# Altium schematic symbol library 4xxx.SchLib: 48 symbols
Pins are listed as number, name and electrical type; pins without a type are passive.

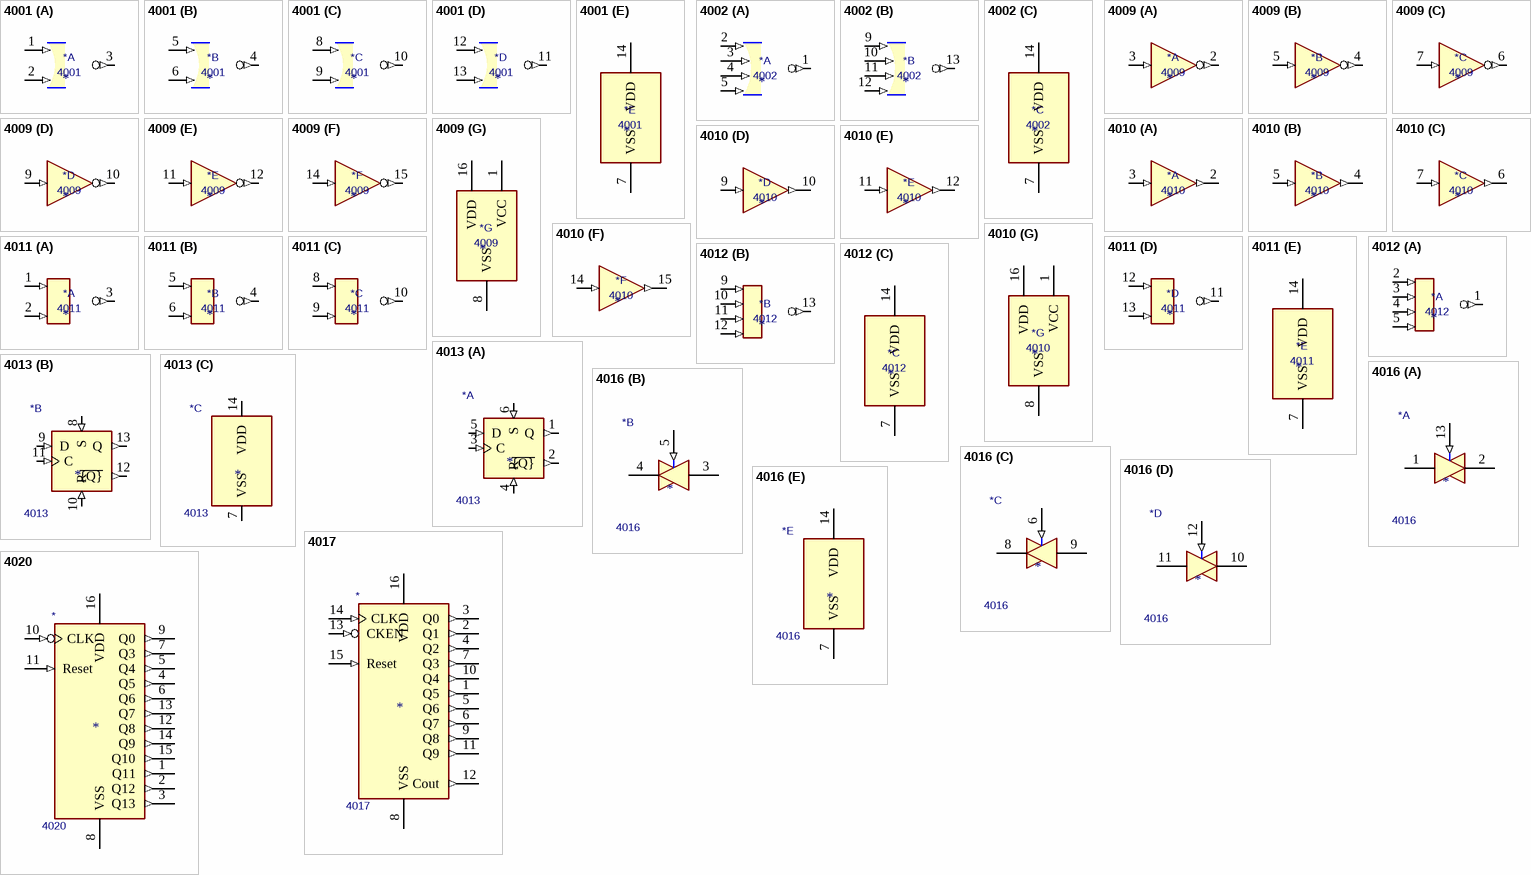
[diagram p0: symbols 4001 to 4020]

## 4001
designator *  value 4001
ki_keywords: CMOS Nor2; ki_description: Quad Nor 2 inputs; ki_fp_filters: DIP?14*; Supplier: http://www.intersil.com/content/dam/Intersil/documents/cd40/cd4000bms-01bms-02bms-25bms.pdf
part A pins: 1 (in), 2 (in), 3 (out)
part B pins: 4 (out), 5 (in), 6 (in)
part C pins: 8 (in), 9 (in), 10 (out)
part D pins: 11 (out), 12 (in), 13 (in)
part E pins: 7 VSS (power), 14 VDD (power)
1 alternate drawing of the same symbol

## 4002
designator *  value 4002
ki_keywords: CMOS Nor4; ki_description: Dual  4 input NOR gate; ki_fp_filters: DIP?14*; Supplier: http://www.intersil.com/content/dam/Intersil/documents/cd40/cd4000bms-01bms-02bms-25bms.pdf
part A pins: 1 (out), 2 (in), 3 (in), 4 (in), 5 (in)
part B pins: 9 (in), 10 (in), 11 (in), 12 (in), 13 (out)
part C pins: 7 VSS (power), 14 VDD (power)
1 alternate drawing of the same symbol

## 4009
designator *  value 4009
ki_keywords: CMOS INV BUFFER high sink, VCC and VDD sep. VDD>VI>VCC!; ki_description: Hex Buffer Inverter; ki_fp_filters: DIP?16*; Supplier: http://www.sycelectronica.com.ar/semiconductores/CD4009.pdf
part A pins: 2 (out), 3 (in)
part B pins: 4 (out), 5 (in)
part C pins: 6 (out), 7 (in)
part D pins: 9 (in), 10 (out)
part E pins: 11 (in), 12 (out)
part F pins: 14 (in), 15 (out)
part G pins: 1 VCC (power), 8 VSS (power), 16 VDD (power)

## 4010
designator *  value 4010
ki_keywords: CMOS BUFFER high sink, VCC and VDD sep. VDD>VI>VCC!; ki_description: Hex Buffer; ki_fp_filters: DIP?16*; Supplier: http://www.ti.com/lit/ds/symlink/cd4010b-q1.pdf
part A pins: 2 (out), 3 (in)
part B pins: 4 (out), 5 (in)
part C pins: 6 (out), 7 (in)
part D pins: 9 (in), 10 (out)
part E pins: 11 (in), 12 (out)
part F pins: 14 (in), 15 (out)
part G pins: 1 VCC (power), 8 VSS (power), 16 VDD (power)

## 4011
designator *  value 4011
ki_keywords: CMOS Nand2; ki_description: Quad Nand 2 inputs; ki_fp_filters: DIP?14*; Supplier: http://www.intersil.com/content/dam/Intersil/documents/cd40/cd4011bms-12bms-23bms.pdf
part A pins: 1 (in), 2 (in), 3 (out)
part B pins: 4 (out), 5 (in), 6 (in)
part C pins: 8 (in), 9 (in), 10 (out)
part D pins: 11 (out), 12 (in), 13 (in)
part E pins: 7 VSS (power), 14 VDD (power)
1 alternate drawing of the same symbol

## 4012
designator *  value 4012
ki_keywords: CMOS Nand4; ki_description: Dual 4 inputs Nand; ki_fp_filters: DIP?14*; Supplier: http://www.intersil.com/content/dam/Intersil/documents/cd40/cd4011bms-12bms-23bms.pdf
part A pins: 1 (out), 2 (in), 3 (in), 4 (in), 5 (in)
part B pins: 9 (in), 10 (in), 11 (in), 12 (in), 13 (out)
part C pins: 7 VSS (power), 14 VDD (power)
1 alternate drawing of the same symbol

## 4013
designator *  value 4013
ki_keywords: CMOS DFF; ki_description: Dual D  FlipFlop, Set & reset; ki_fp_filters: DIP*W7.62mm* SOIC*3.9x9.9mm*P1.27mm* TSSOP*4.4x5mm*P0.65mm*; Supplier: http://www.onsemi.com/pub/Collateral/MC14013B-D.PDF
part A pins: 1 Q (out), 2 ~{{Q}} (out), 3 C (in), 4 R (in), 5 D (in), 6 S (in)
part B pins: 8 S (in), 9 D (in), 10 R (in), 11 C (in), 12 ~{{Q}} (out), 13 Q (out)
part C pins: 7 VSS (power), 14 VDD (power)

## 4016
designator *  value 4016
ki_keywords: CMOS SWITCH; ki_description: Quad Analog Switches; ki_fp_filters: DIP?14*; Supplier: http://www.ti.com/lit/ds/symlink/cd4016b.pdf
part A pins: 1, 2, 13 (in)
part B pins: 3, 4, 5 (in)
part C pins: 6 (in), 8, 9
part D pins: 10, 11, 12 (in)
part E pins: 7 VSS (power), 14 VDD (power)

## 4017
designator *  value 4017
ki_keywords: CNT CNT10; ki_description: Johnson Counter ( 10 outputs ); ki_fp_filters: DIP?16*; Supplier: http://www.intersil.com/content/dam/Intersil/documents/cd40/cd4017bms-22bms.pdf
pins: 1 Q5 (out), 2 Q1 (out), 3 Q0 (out), 4 Q2 (out), 5 Q6 (out), 6 Q7 (out), 7 Q3 (out), 8 VSS (power), 9 Q8 (out), 10 Q4 (out), 11 Q9 (out), 12 Cout (out), 13 CKEN (in), 14 CLK (in), 15 Reset (in), 16 VDD (power)

## 4020
designator *  value 4020
ki_keywords: CMOS CNT CNT14; ki_description: Binary counter 14 stages (asynchronous); ki_fp_filters: DIP?16*; Supplier: http://www.intersil.com/content/dam/Intersil/documents/cd40/cd4020bms-24bms-40bms.pdf
pins: 1 Q11 (out), 2 Q12 (out), 3 Q13 (out), 4 Q5 (out), 5 Q4 (out), 6 Q6 (out), 7 Q3 (out), 8 VSS (power), 9 Q0 (out), 10 CLK (in), 11 Reset (in), 12 Q8 (out), 13 Q7 (out), 14 Q9 (out), 15 Q10 (out), 16 VDD (power)

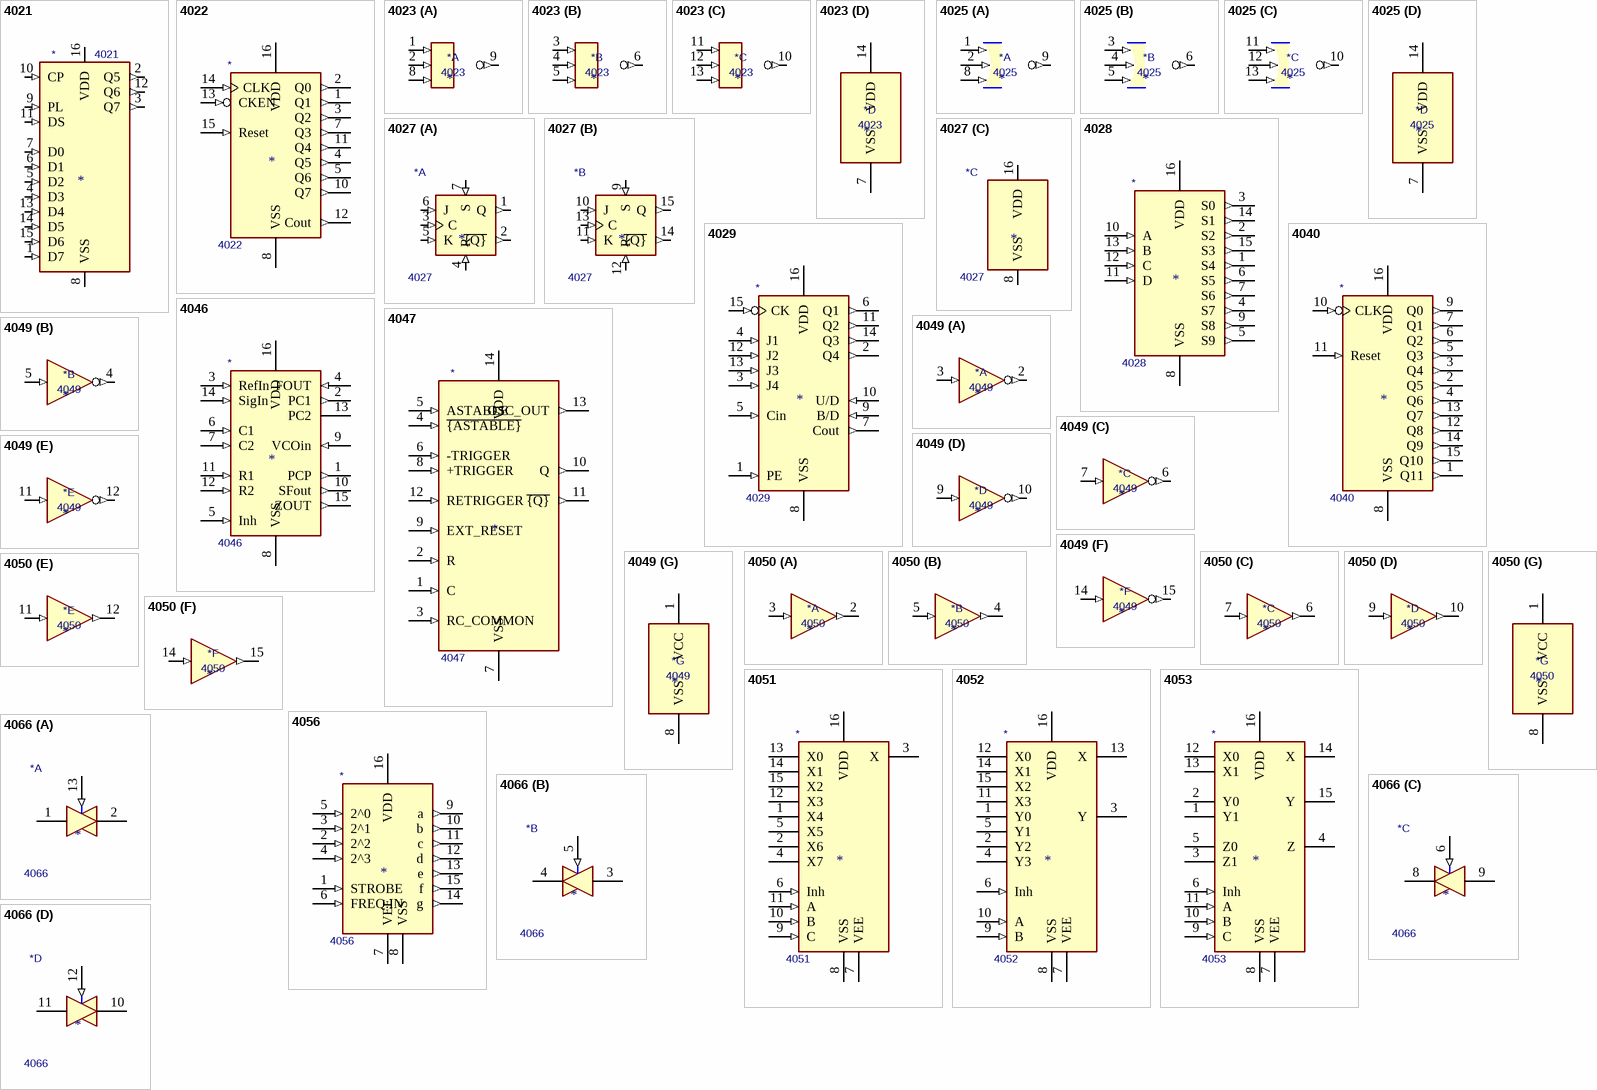
[diagram p1: symbols 4021 to 4066]

## 4021
designator *  value 4021
ki_keywords: shift register SR PISO; ki_description: 8-bit static shift register; ki_fp_filters: DIP*W7.62mm* SOIC*3.9x9.9mm*P1.27mm* TSSOP*4.4x5mm*P0.65mm* SOIC*5.3x10.2mm*P1.27mm*; Supplier: https://assets.nexperia.com/documents/data-sheet/HEF4021B.pdf
pins: 1 D7 (in), 2 Q5 (out), 3 Q7 (out), 4 D3 (in), 5 D2 (in), 6 D1 (in), 7 D0 (in), 8 VSS (power), 9 PL (in), 10 CP (in), 11 DS (in), 12 Q6 (out), 13 D4 (in), 14 D5 (in), 15 D6 (in), 16 VDD (power)

## 4022
designator *  value 4022
ki_keywords: CMOS CNT CNT8; ki_description: Johnson Counter (8 states); ki_fp_filters: DIP?16*; Supplier: http://www.intersil.com/content/dam/Intersil/documents/cd40/cd4017bms-22bms.pdf
pins: 1 Q1 (out), 2 Q0 (out), 3 Q2 (out), 4 Q5 (out), 5 Q6 (out), 7 Q3 (out), 8 VSS (power), 10 Q7 (out), 11 Q4 (out), 12 Cout (out), 13 CKEN (in), 14 CLK (in), 15 Reset (in), 16 VDD (power)

## 4023
designator *  value 4023
ki_keywords: CMOS Nand3; ki_description: Triple Nand 3 inputs; ki_fp_filters: DIP?14*; Supplier: http://www.intersil.com/content/dam/Intersil/documents/cd40/cd4011bms-12bms-23bms.pdf
part A pins: 1 (in), 2 (in), 8 (in), 9 (out)
part B pins: 3 (in), 4 (in), 5 (in), 6 (out)
part C pins: 10 (out), 11 (in), 12 (in), 13 (in)
part D pins: 7 VSS (power), 14 VDD (power)
1 alternate drawing of the same symbol

## 4025
designator *  value 4025
ki_keywords: CMOS Nor3; ki_description: Triple Nor 3 inputs; ki_fp_filters: DIP?14*; Supplier: http://www.intersil.com/content/dam/Intersil/documents/cd40/cd4000bms-01bms-02bms-25bms.pdf
part A pins: 1 (in), 2 (in), 8 (in), 9 (out)
part B pins: 3 (in), 4 (in), 5 (in), 6 (out)
part C pins: 10 (out), 11 (in), 12 (in), 13 (in)
part D pins: 7 VSS (power), 14 VDD (power)
1 alternate drawing of the same symbol

## 4027
designator *  value 4027
ki_keywords: CMOS JK JKFF; ki_description: Dual JK FlipFlop, set & reset; ki_fp_filters: DIP*W7.62mm* SOIC*3.9x9.9mm*P1.27mm* TSSOP*4.4x5mm*P0.65mm*; Supplier: http://www.intersil.com/content/dam/Intersil/documents/cd40/cd4027bms.pdf
part A pins: 1 Q (out), 2 ~{{Q}} (out), 3 C (in), 4 R (in), 5 K (in), 6 J (in), 7 S (in)
part B pins: 9 S (in), 10 J (in), 11 K (in), 12 R (in), 13 C (in), 14 ~{{Q}} (out), 15 Q (out)
part C pins: 8 VSS (power), 16 VDD (power)

## 4028
designator *  value 4028
ki_keywords: CMOS DECOD DECOD10; ki_description: Decoder 4 to 10 lines; ki_fp_filters: DIP?16*; Supplier: http://www.intersil.com/content/dam/Intersil/documents/cd40/cd4028bms.pdf
pins: 1 S4 (out), 2 S2 (out), 3 S0 (out), 4 S7 (out), 5 S9 (out), 6 S5 (out), 7 S6 (out), 8 VSS (power), 9 S8 (out), 10 A (in), 11 D (in), 12 C (in), 13 B (in), 14 S1 (out), 15 S3 (out), 16 VDD (power)

## 4029
designator *  value 4029
ki_keywords: CMOS COUNTER; ki_description: Up/Down Counter; ki_fp_filters: DIP?16*; Supplier: http://www.intersil.com/content/dam/Intersil/documents/cd40/cd4029bms.pdf
pins: 1 PE (in), 2 Q4 (out), 3 J4 (in), 4 J1 (in), 5 Cin (in), 6 Q1 (out), 7 Cout (out), 8 VSS (power), 9 B/D (in), 10 U/D (in), 11 Q2 (out), 12 J2 (in), 13 J3 (in), 14 Q3 (out), 15 CK (in), 16 VDD (power)

## 4040
designator *  value 4040
ki_keywords: CMOS CNT CNT12; ki_description: Binary Counter 12 stages (Asynchronous); ki_fp_filters: DIP?16*; Supplier: http://www.intersil.com/content/dam/Intersil/documents/cd40/cd4020bms-24bms-40bms.pdf
pins: 1 Q11 (out), 2 Q5 (out), 3 Q4 (out), 4 Q6 (out), 5 Q3 (out), 6 Q2 (out), 7 Q1 (out), 8 VSS (power), 9 Q0 (out), 10 CLK (in), 11 Reset (in), 12 Q8 (out), 13 Q7 (out), 14 Q9 (out), 15 Q10 (out), 16 VDD (power)

## 4046
designator *  value 4046
ki_keywords: CMOS PLL; ki_description: Phase Comp & VCO; ki_fp_filters: DIP?16*; Supplier: https://assets.nexperia.com/documents/data-sheet/HEF4046B.pdf
pins: 1 PCP (out), 2 PC1 (out), 3 RefIn (in), 4 FOUT (in), 5 Inh (in), 6 C1 (in), 7 C2 (in), 8 VSS (power), 9 VCOin (in), 10 SFout (out), 11 R1 (in), 12 R2 (in), 13 PC2 (hiz), 14 SigIn (in), 15 ZOUT (out), 16 VDD (power)

## 4047
designator *  value 4047
ki_keywords: CMOS monostable astable multivibrator; ki_description: Monostable/Astable Multivibrator; ki_fp_filters: DIP*W7.62mm* SOIC*3.9x8.7mm*P1.27mm*; Supplier: https://www.ti.com/lit/ds/symlink/cd4047b.pdf
pins: 1 C (in), 2 R (in), 3 RC_COMMON (in), 4 ~{{ASTABLE}} (in), 5 ASTABLE (in), 6 -TRIGGER (in), 7 VSS (power), 8 +TRIGGER (in), 9 EXT_RESET (in), 10 Q (out), 11 ~{{Q}} (out), 12 RETRIGGER (in), 13 OSC_OUT (out), 14 VDD (power)

## 4049
designator *  value 4049
ki_keywords: CMOS BUFFER; ki_description: Hex Buffer Inverter; ki_fp_filters: DIP?16*; Supplier: http://www.intersil.com/content/dam/intersil/documents/cd40/cd4049ubms.pdf
part A pins: 2 (out), 3 (in)
part B pins: 4 (out), 5 (in)
part C pins: 6 (out), 7 (in)
part D pins: 9 (in), 10 (out)
part E pins: 11 (in), 12 (out)
part F pins: 14 (in), 15 (out)
part G pins: 1 VCC (power), 8 VSS (power)

## 4050
designator *  value 4050
ki_keywords: CMOS BUFFER; ki_description: Hex Buffer; ki_fp_filters: DIP?16*; Supplier: http://www.intersil.com/content/dam/intersil/documents/cd40/cd4050bms.pdf
part A pins: 2 (out), 3 (in)
part B pins: 4 (out), 5 (in)
part C pins: 6 (out), 7 (in)
part D pins: 9 (in), 10 (out)
part E pins: 11 (in), 12 (out)
part F pins: 14 (in), 15 (out)
part G pins: 1 VCC (power), 8 VSS (power)

## 4051
designator *  value 4051
ki_keywords: CMOS MUX MUX8; ki_description: Analog Multiplexer 8 to 1 lins; ki_fp_filters: DIP?16*; Supplier: http://www.intersil.com/content/dam/Intersil/documents/cd40/cd4051bms-52bms-53bms.pdf
pins: 1 X4, 2 X6, 3 X, 4 X7, 5 X5, 6 Inh (in), 7 VEE (power), 8 VSS (power), 9 C (in), 10 B (in), 11 A (in), 12 X3, 13 X0, 14 X1, 15 X2, 16 VDD (power)

## 4052
designator *  value 4052
ki_keywords: CMOS MUX MUX4; ki_description: Dual Analog Multiplexer 4 to 1 line; ki_fp_filters: DIP?16*; Supplier: http://www.intersil.com/content/dam/Intersil/documents/cd40/cd4051bms-52bms-53bms.pdf
pins: 1 Y0, 2 Y2, 3 Y, 4 Y3, 5 Y1, 6 Inh (in), 7 VEE (power), 8 VSS (power), 9 B (in), 10 A (in), 11 X3, 12 X0, 13 X, 14 X1, 15 X2, 16 VDD (power)

## 4053
designator *  value 4053
ki_keywords: CMOS MUX MUX2; ki_description: Triple analog Multiplexer 2 to 1 line; ki_fp_filters: DIP?16*; Supplier: http://www.intersil.com/content/dam/Intersil/documents/cd40/cd4051bms-52bms-53bms.pdf
pins: 1 Y1, 2 Y0, 3 Z1, 4 Z, 5 Z0, 6 Inh (in), 7 VEE (power), 8 VSS (power), 9 C (in), 10 B (in), 11 A (in), 12 X0, 13 X1, 14 X, 15 Y, 16 VDD (power)

## 4056
designator *  value 4056
ki_keywords: CMOS LCD 7-segment decoder driver; ki_description: BCD to 7-Segment Decoder/Driver, Strobed-Latch Function; ki_fp_filters: DIP*W7.62mm* SOIC*3.9x9.9mm*P1.27mm* TSSOP*4.4x5mm*P0.65mm*; Supplier: http://www.ti.com/lit/ds/symlink/cd4056b.pdf
pins: 1 STROBE (in), 2 2^2 (in), 3 2^1 (in), 4 2^3 (in), 5 2^0 (in), 6 FREQ.IN (in), 7 VEE (power), 8 VSS (power), 9 a (out), 10 b (out), 11 c (out), 12 d (out), 13 e (out), 14 g (out), 15 f (out), 16 VDD (power)

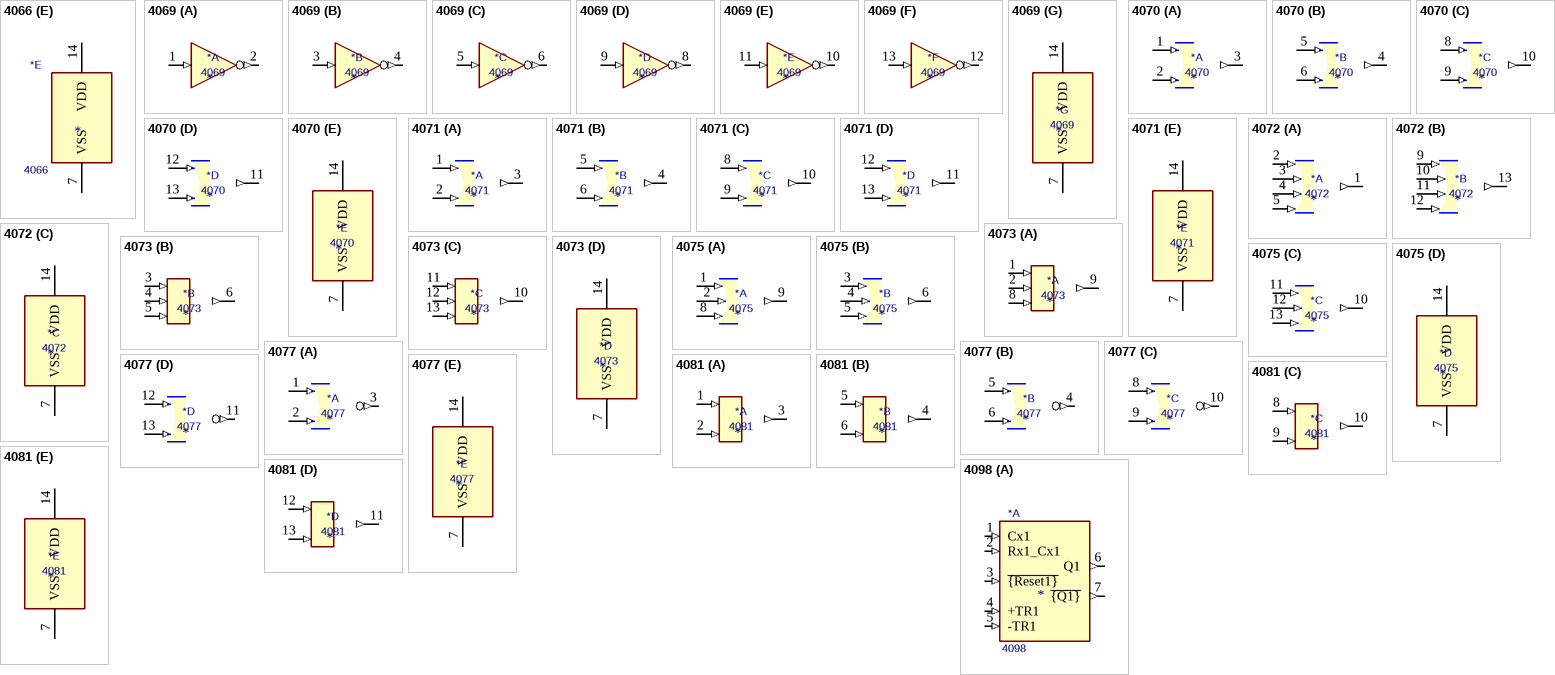
[diagram p2: symbols 4066 to 4098]

## 4066
designator *  value 4066
ki_keywords: CMOS SWITCH; ki_description: Quad Analog Switches; ki_fp_filters: DIP?14*; Supplier: http://www.ti.com/lit/ds/symlink/cd4066b.pdf
part A pins: 1, 2, 13 (in)
part B pins: 3, 4, 5 (in)
part C pins: 6 (in), 8, 9
part D pins: 10, 11, 12 (in)
part E pins: 7 VSS (power), 14 VDD (power)

## 4069
designator *  value 4069
ki_keywords: CMOS NOT; ki_description: Hex inverter; ki_fp_filters: DIP?14*; Supplier: http://www.intersil.com/content/dam/Intersil/documents/cd40/cd4069ubms.pdf
part A pins: 1 (in), 2 (out)
part B pins: 3 (in), 4 (out)
part C pins: 5 (in), 6 (out)
part D pins: 8 (out), 9 (in)
part E pins: 10 (out), 11 (in)
part F pins: 12 (out), 13 (in)
part G pins: 7 VSS (power), 14 VDD (power)

## 4070
designator *  value 4070
ki_keywords: CMOS XOR2; ki_description: Quad Xor 2 inputs; ki_fp_filters: DIP?14*; Supplier: http://www.intersil.com/content/dam/Intersil/documents/cd40/cd4070bms-77bms.pdf
part A pins: 1 (in), 2 (in), 3 (out)
part B pins: 4 (out), 5 (in), 6 (in)
part C pins: 8 (in), 9 (in), 10 (out)
part D pins: 11 (out), 12 (in), 13 (in)
part E pins: 7 VSS (power), 14 VDD (power)

## 4071
designator *  value 4071
ki_keywords: CMOS OR2; ki_description: Quad Or 2 inputs; ki_fp_filters: DIP?14*; Supplier: http://www.intersil.com/content/dam/Intersil/documents/cd40/cd4071bms-72bms-75bms.pdf
part A pins: 1 (in), 2 (in), 3 (out)
part B pins: 4 (out), 5 (in), 6 (in)
part C pins: 8 (in), 9 (in), 10 (out)
part D pins: 11 (out), 12 (in), 13 (in)
part E pins: 7 VSS (power), 14 VDD (power)
1 alternate drawing of the same symbol

## 4072
designator *  value 4072
ki_keywords: CMOS OR4; ki_description: Dual 4 input OR gate; ki_fp_filters: DIP?14*; Supplier: http://www.intersil.com/content/dam/Intersil/documents/cd40/cd4071bms-72bms-75bms.pdf
part A pins: 1 (out), 2 (in), 3 (in), 4 (in), 5 (in)
part B pins: 9 (in), 10 (in), 11 (in), 12 (in), 13 (out)
part C pins: 7 VSS (power), 14 VDD (power)
1 alternate drawing of the same symbol

## 4073
designator *  value 4073
ki_keywords: CMOS And3; ki_description: Triple And 3 inputs; ki_fp_filters: DIP?14*; Supplier: http://www.intersil.com/content/dam/Intersil/documents/cd40/cd4073bms-81bms-82bms.pdf
part A pins: 1 (in), 2 (in), 8 (in), 9 (out)
part B pins: 3 (in), 4 (in), 5 (in), 6 (out)
part C pins: 10 (out), 11 (in), 12 (in), 13 (in)
part D pins: 7 VSS (power), 14 VDD (power)
1 alternate drawing of the same symbol

## 4075
designator *  value 4075
ki_keywords: CMOS Or3; ki_description: Triple Or 3 inputs; ki_fp_filters: DIP?14*; Supplier: http://www.intersil.com/content/dam/Intersil/documents/cd40/cd4071bms-72bms-75bms.pdf
part A pins: 1 (in), 2 (in), 8 (in), 9 (out)
part B pins: 3 (in), 4 (in), 5 (in), 6 (out)
part C pins: 10 (out), 11 (in), 12 (in), 13 (in)
part D pins: 7 VSS (power), 14 VDD (power)
1 alternate drawing of the same symbol

## 4077
designator *  value 4077
ki_keywords: CMOS XOR XNOR XNOR2; ki_description: Quad Xnor 2 inputs; ki_fp_filters: DIP?14*; Supplier: http://www.intersil.com/content/dam/Intersil/documents/cd40/cd4076bms.pdf
part A pins: 1 (in), 2 (in), 3 (out)
part B pins: 4 (out), 5 (in), 6 (in)
part C pins: 8 (in), 9 (in), 10 (out)
part D pins: 11 (out), 12 (in), 13 (in)
part E pins: 7 VSS (power), 14 VDD (power)

## 4081
designator *  value 4081
ki_keywords: CMOS And2; ki_description: Quad And 2 inputs; ki_fp_filters: DIP?14*; Supplier: http://www.intersil.com/content/dam/Intersil/documents/cd40/cd4073bms-81bms-82bms.pdf
part A pins: 1 (in), 2 (in), 3 (out)
part B pins: 4 (out), 5 (in), 6 (in)
part C pins: 8 (in), 9 (in), 10 (out)
part D pins: 11 (out), 12 (in), 13 (in)
part E pins: 7 VSS (power), 14 VDD (power)
1 alternate drawing of the same symbol

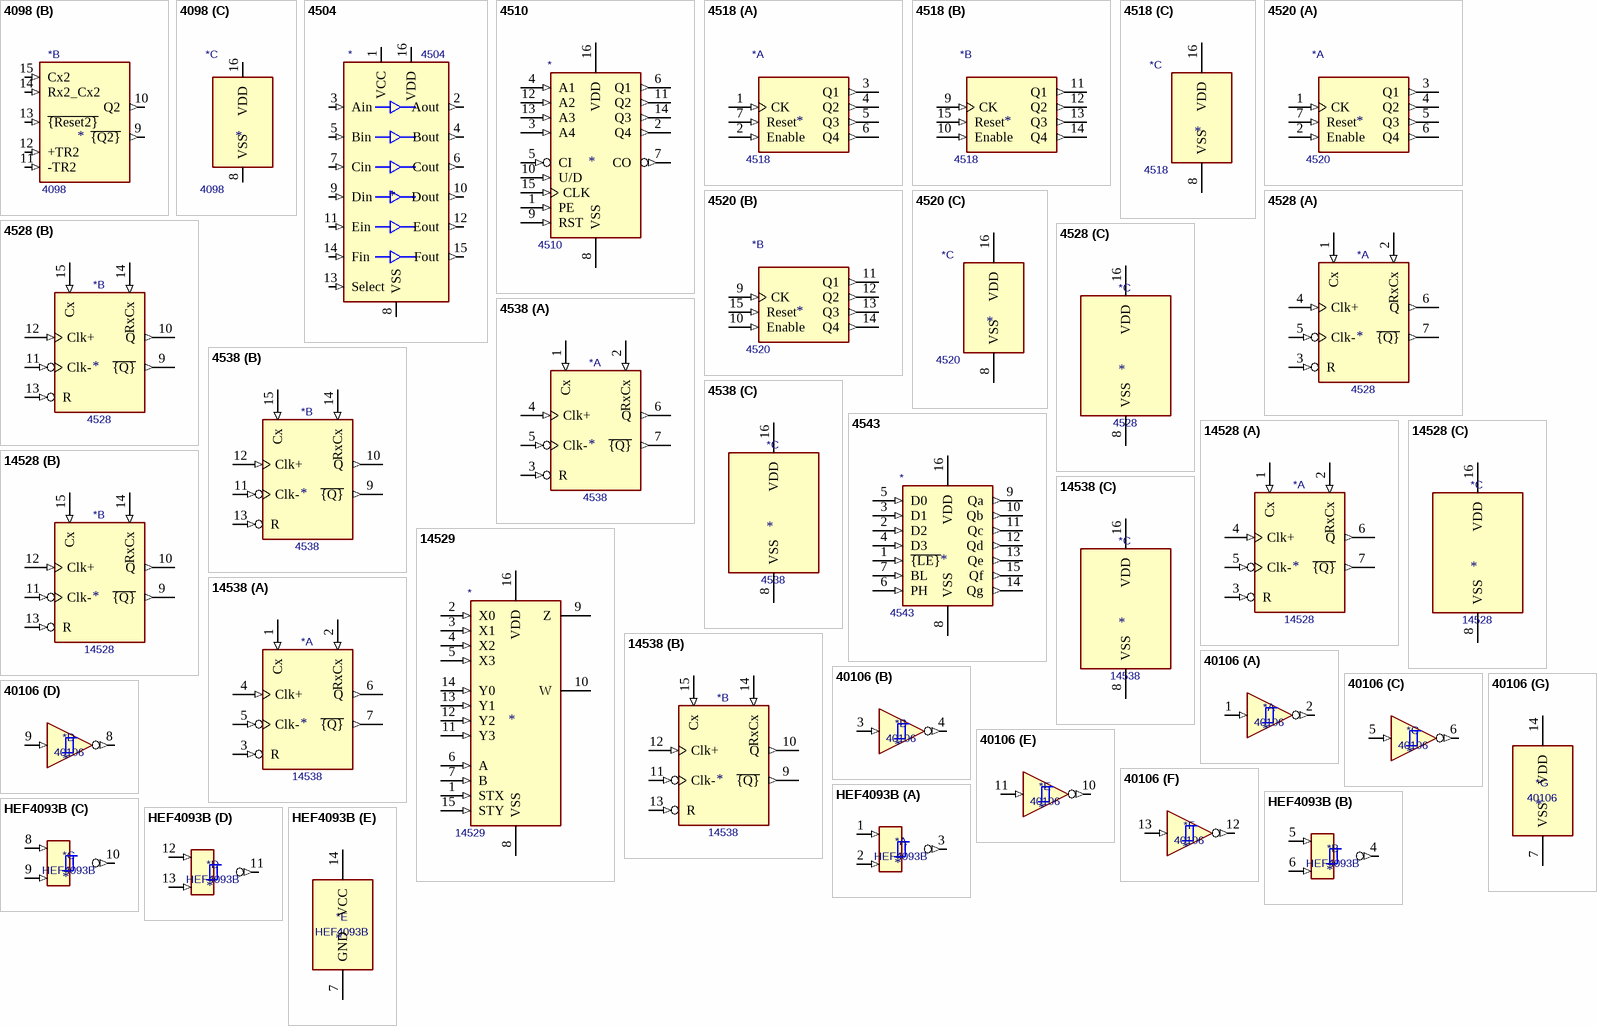
[diagram p3: symbols 4098 to HEF4093B]

## 4098
designator *  value 4098
ki_keywords: CMOS monostable multivibrator; ki_description: Dual Monostable Multivibrator; ki_fp_filters: DIP*W7.62mm* SOIC*3.9x9.9mm*P1.27mm* TSSOP*4.4x5mm*P0.65mm*; Supplier: http://www.ti.com/lit/ds/symlink/cd4098b.pdf
part A pins: 1 Cx1 (in), 2 Rx1_Cx1 (in), 3 ~{{Reset1}} (in), 4 +TR1 (in), 5 -TR1 (in), 6 Q1 (out), 7 ~{{Q1}} (out)
part B pins: 9 ~{{Q2}} (out), 10 Q2 (out), 11 -TR2 (in), 12 +TR2 (in), 13 ~{{Reset2}} (in), 14 Rx2_Cx2 (in), 15 Cx2 (in)
part C pins: 8 VSS (power), 16 VDD (power)

## 4504
designator *  value 4504
ki_keywords: Level-shifter; ki_description: CMOS Hex Voltage-Level Shifter for TTL-to-CMOS or CMOS-to-CMOS, DIP-16/SOIC-16/TSSOP-16; ki_fp_filters: DIP*W7.62mm* SOIC*3.9x9.9mm*P1.27mm* TSSOP*4.4x5mm*P0.65mm*; Supplier: http://www.ti.com/lit/ds/symlink/cd4504b.pdf
pins: 1 VCC (power), 2 Aout (out), 3 Ain (in), 4 Bout (out), 5 Bin (in), 6 Cout (out), 7 Cin (in), 8 VSS (power), 9 Din (in), 10 Dout (out), 11 Ein (in), 12 Eout (out), 13 Select (in), 14 Fin (in), 15 Fout (out), 16 VDD (power)

## 4510
designator *  value 4510
ki_keywords: CMOS CNT CNT4; ki_description: 4 bits programmable counter; ki_fp_filters: DIP?16*; Supplier: http://pdf.datasheetcatalog.com/datasheets/150/109581_DS.pdf
pins: 1 PE (in), 2 Q4 (out), 3 A4 (in), 4 A1 (in), 5 CI (in), 6 Q1 (out), 7 CO (out), 8 VSS (power), 9 RST (in), 10 U/D (in), 11 Q2 (out), 12 A2 (in), 13 A3 (in), 14 Q3 (out), 15 CLK (in), 16 VDD (power)

## 4518
designator *  value 4518
ki_keywords: CMOS; ki_description: Dual BCD Up-Counter; ki_fp_filters: DIP?16*; Supplier: http://www.intersil.com/content/dam/Intersil/documents/cd45/cd4518bms-20bms.pdf
part A pins: 1 CK (in), 2 Enable (in), 3 Q1 (out), 4 Q2 (out), 5 Q3 (out), 6 Q4 (out), 7 Reset (in)
part B pins: 9 CK (in), 10 Enable (in), 11 Q1 (out), 12 Q2 (out), 13 Q3 (out), 14 Q4 (out), 15 Reset (in)
part C pins: 8 VSS (power), 16 VDD (power)

## 4520
designator *  value 4520
ki_keywords: CMOS; ki_description: Dual Binary Up-Counter; ki_fp_filters: DIP?16*; Supplier: http://www.intersil.com/content/dam/Intersil/documents/cd45/cd4518bms-20bms.pdf
part A pins: 1 CK (in), 2 Enable (in), 3 Q1 (out), 4 Q2 (out), 5 Q3 (out), 6 Q4 (out), 7 Reset (in)
part B pins: 9 CK (in), 10 Enable (in), 11 Q1 (out), 12 Q2 (out), 13 Q3 (out), 14 Q4 (out), 15 Reset (in)
part C pins: 8 VSS (power), 16 VDD (power)

## 4528
designator *  value 4528
ki_keywords: CMOS; ki_description: Monostable; ki_fp_filters: DIP?16*; Supplier: http://datasheet.octopart.com/CD4528BCN-Fairchild-datasheet-143503.pdf
part A pins: 1 Cx (in), 2 RxCx (in), 3 R (in), 4 Clk+ (in), 5 Clk- (in), 6 Q (out), 7 ~{{Q}} (out)
part B pins: 9 ~{{Q}} (out), 10 Q (out), 11 Clk- (in), 12 Clk+ (in), 13 R (in), 14 RxCx (in), 15 Cx (in)
part C pins: 8 VSS (power), 16 VDD (power)

## 4538
designator *  value 4538
ki_keywords: CMOS; ki_description: Monostable; ki_fp_filters: DIP?16*; Supplier: https://assets.nexperia.com/documents/data-sheet/HEF4538B.pdf
part A pins: 1 Cx (in), 2 RxCx (in), 3 R (in), 4 Clk+ (in), 5 Clk- (in), 6 Q (out), 7 ~{{Q}} (out)
part B pins: 9 ~{{Q}} (out), 10 Q (out), 11 Clk- (in), 12 Clk+ (in), 13 R (in), 14 RxCx (in), 15 Cx (in)
part C pins: 8 VSS (power), 16 VDD (power)

## 4543
designator *  value 4543
ki_keywords: CMOS 7-segment latch decoder driver; ki_description: BCD to 7-segment latch/decoder/driver; ki_fp_filters: DIP*W7.62mm* SOIC*3.9x9.9mm*P1.27mm* TSSOP*4.4x5mm*P0.65mm*; Supplier: http://www.ti.com/lit/ds/symlink/cd4543b.pdf
pins: 1 ~{{LE}} (in), 2 D2 (in), 3 D1 (in), 4 D3 (in), 5 D0 (in), 6 PH (in), 7 BL (in), 8 VSS (power), 9 Qa (out), 10 Qb (out), 11 Qc (out), 12 Qd (out), 13 Qe (out), 14 Qg (out), 15 Qf (out), 16 VDD (power)

## 14528
designator *  value 14528
ki_keywords: CMOS; ki_description: Monostable; ki_fp_filters: DIP?16*; Supplier: https://www.onsemi.com/pub/Collateral/MC14528B-D.PDF
part A pins: 1 Cx (in), 2 RxCx (in), 3 R (in), 4 Clk+ (in), 5 Clk- (in), 6 Q (out), 7 ~{{Q}} (out)
part B pins: 9 ~{{Q}} (out), 10 Q (out), 11 Clk- (in), 12 Clk+ (in), 13 R (in), 14 RxCx (in), 15 Cx (in)
part C pins: 8 VSS (power), 16 VDD (power)

## 14529
designator *  value 14529
ki_keywords: CMOS MUX MUX4; ki_description: Dual 4 to 1 Multiplexer; ki_fp_filters: DIP?16*; Supplier: http://www.alldatasheet.com/datasheet-pdf/pdf/97272/HITACHI/HD14529B.html
pins: 1 STX (in), 2 X0 (in), 3 X1 (in), 4 X2 (in), 5 X3 (in), 6 A (in), 7 B (in), 8 VSS (power), 9 Z (hiz), 10 W (hiz), 11 Y3 (in), 12 Y2 (in), 13 Y1 (in), 14 Y0 (in), 15 STY (in), 16 VDD (power)

## 14538
designator *  value 14538
ki_keywords: CMOS; ki_description: Monostable; ki_fp_filters: DIP?16*; Supplier: https://www.onsemi.com/pub/Collateral/MC14538B-D.PDF
part A pins: 1 Cx (in), 2 RxCx (in), 3 R (in), 4 Clk+ (in), 5 Clk- (in), 6 Q (out), 7 ~{{Q}} (out)
part B pins: 9 ~{{Q}} (out), 10 Q (out), 11 Clk- (in), 12 Clk+ (in), 13 R (in), 14 RxCx (in), 15 Cx (in)
part C pins: 8 VSS (power), 16 VDD (power)

## 40106
designator *  value 40106
ki_keywords: CMOS; ki_description: Hex Schmitt trigger inverter; ki_fp_filters: DIP?14*; Supplier: https://assets.nexperia.com/documents/data-sheet/HEF40106B.pdf
part A pins: 1 (in), 2 (out)
part B pins: 3 (in), 4 (out)
part C pins: 5 (in), 6 (out)
part D pins: 8 (out), 9 (in)
part E pins: 10 (out), 11 (in)
part F pins: 12 (out), 13 (in)
part G pins: 7 VSS (power), 14 VDD (power)

## HEF4093B
designator *  value HEF4093B
ki_keywords: NAND2; ki_description: Quad 2-Input NAND Schmitt Trigger, SOIC-14; ki_fp_filters: SOIC*3.9x8.7mm*P1.27mm*; Supplier: https://assets.nexperia.com/documents/data-sheet/HEF4093B.pdf
part A pins: 1 (in), 2 (in), 3 (out)
part B pins: 4 (out), 5 (in), 6 (in)
part C pins: 8 (in), 9 (in), 10 (out)
part D pins: 11 (out), 12 (in), 13 (in)
part E pins: 7 GND (power), 14 VCC (power)
1 alternate drawing of the same symbol